# Altium footprint library MCP73871-2AAIML.PcbLib: 3 footprints
Each footprint in its own frame and in the unit in brackets; x right, y up, seen from the top. Pads: shape width x height; smd on the part's side, far side on the other; paste and mask are expansions set on the pad; w line width, h text height; cw(c..) or ccw(c..) is an arc to the next point about the centre after c.
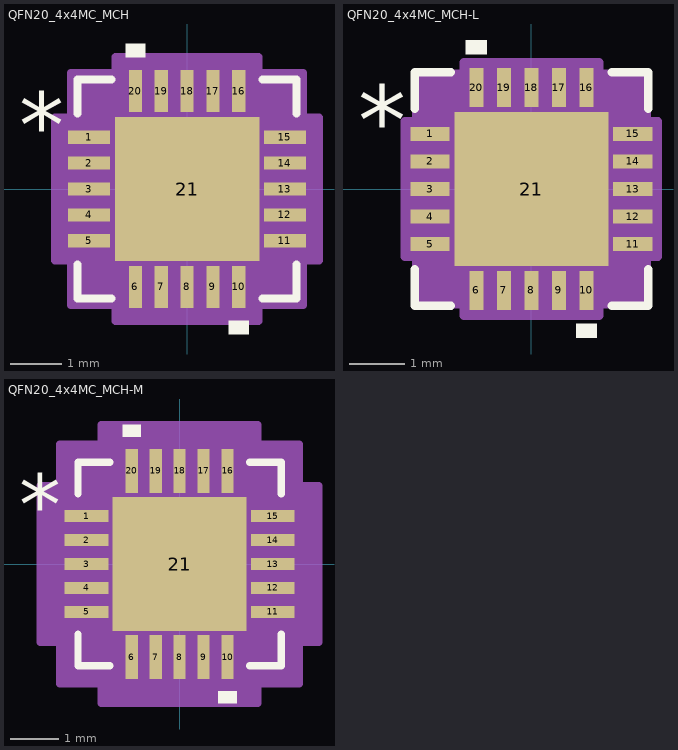
[diagram p0: the footprints below, top view; thin cyan lines are the x and y axes]

## QFN20_4x4MC_MCH [mil]
pads (21):
  rect 32x10 smd paste+0 mask+0: 1(-74.5,39.37) 2(-74.5,19.68) 3(-74.5,0) 4(-74.5,-19.68) 5(-74.5,-39.37) 11(74.5,-39.37) 12(74.5,-19.68) 13(74.5,0) 14(74.5,19.68) 15(74.5,39.37)
  rect 10x32 smd paste+0 mask+0: 6(-39.37,-74.5) 7(-19.68,-74.5) 8(0,-74.5) 9(19.68,-74.5) 10(39.37,-74.5) 16(39.37,74.5) 17(19.68,74.5) 18(0,74.5) 19(-19.68,74.5) 20(-39.37,74.5)
  rect 110x110 smd paste-55 mask+0: 21(0,0)
Top Overlay:
  region: 46.87,-100.5 31.87,-100.5 31.87,-110.5 46.87,-110.5
  region: -31.87,100.5 -46.87,100.5 -46.87,110.5 -31.87,110.5
  lines w6: -83.5,-57.47 -83.5,-83.5 -57.47,-83.5 ; -83.5,57.47 -83.5,83.5 -57.47,83.5 ; 57.47,-83.5 83.5,-83.5 83.5,-57.47 ; 57.47,83.5 83.5,83.5 83.5,57.47
  text "*" at -128,24.21 h50
  text ".Designator" at -137.5,-25 h50
Top Paste:
  region: -3.94,51.06 -51.06,51.06 -51.06,3.94 -3.94,3.94
  region: -3.94,-3.94 -51.06,-3.94 -51.06,-51.06 -3.94,-51.06
  region: 51.06,51.06 3.94,51.06 3.94,3.94 51.06,3.94
  region: 51.06,-3.94 3.94,-3.94 3.94,-51.06 51.06,-51.06
Mechanical 13:
  lines w1: -78.5,28.5 -28.5,78.5 ; -78.5,-78.5 78.5,-78.5 ; -78.5,-78.5 -78.5,78.5 ; -78.5,-78.5 -78.5,-78.5 ; -78.5,-45.37 -78.5,-33.37 ; -78.5,-45.37 -78.5,-33.37 ; -78.5,-45.37 -78.5,-45.37 ; -78.5,-33.37 -78.5,-33.37 ; -78.5,-25.68 -78.5,-13.69 ; -78.5,-25.68 -78.5,-13.69 ; -78.5,-25.68 -78.5,-25.68 ; -78.5,-13.69 -78.5,-13.69 ; -78.5,-6 -78.5,6 ; -78.5,-6 -78.5,6 ; -78.5,-6 -78.5,-6 ; -78.5,6 -78.5,6 ; -78.5,13.69 -78.5,25.68 ; -78.5,13.69 -78.5,25.68 ; -78.5,13.69 -78.5,13.69 ; -78.5,25.68 -78.5,25.68 ; -78.5,33.37 -78.5,45.37 ; -78.5,33.37 -78.5,45.37 ; -78.5,33.37 -78.5,33.37 ; -78.5,45.37 -78.5,45.37 ; -78.5,78.5 78.5,78.5 ; -78.5,78.5 -78.5,78.5 ; -45.37,-78.5 -33.37,-78.5 ; -45.37,-78.5 -45.37,-78.5 ; -45.37,-78.5 -33.37,-78.5 ; -45.37,78.5 -33.37,78.5 ; -45.37,78.5 -33.37,78.5 ; -45.37,78.5 -45.37,78.5 ; -33.37,-78.5 -33.37,-78.5 ; -33.37,78.5 -33.37,78.5 ; -25.68,-78.5 -13.69,-78.5 ; -25.68,-78.5 -25.68,-78.5 ; -25.68,-78.5 -13.69,-78.5 ; -25.68,78.5 -13.69,78.5 ; -25.68,78.5 -13.69,78.5 ; -25.68,78.5 -25.68,78.5 ; -13.69,-78.5 -13.69,-78.5 ; -13.69,78.5 -13.69,78.5 ; -6,-78.5 6,-78.5 ; -6,-78.5 -6,-78.5 ; -6,-78.5 6,-78.5 ; -6,78.5 6,78.5 ; -6,78.5 6,78.5 ; -6,78.5 -6,78.5 ; 6,-78.5 6,-78.5 ; 6,78.5 6,78.5 ; 13.69,-78.5 25.68,-78.5 ; 13.69,-78.5 13.69,-78.5 ; 13.69,-78.5 25.68,-78.5 ; 13.69,78.5 25.68,78.5 ; 13.69,78.5 25.68,78.5 ; 13.69,78.5 13.69,78.5 ; 25.68,-78.5 25.68,-78.5 ; 25.68,78.5 25.68,78.5 ; 33.37,-78.5 45.37,-78.5 ; 33.37,-78.5 33.37,-78.5 ; 33.37,-78.5 45.37,-78.5 ; 33.37,78.5 45.37,78.5 ; 33.37,78.5 45.37,78.5 ; 33.37,78.5 33.37,78.5 ; 45.37,-78.5 45.37,-78.5 ; 45.37,78.5 45.37,78.5 ; 78.5,-78.5 78.5,-78.5 ; 78.5,-78.5 78.5,78.5 ; 78.5,-45.37 78.5,-33.37 ; 78.5,-45.37 78.5,-45.37 ; 78.5,-45.37 78.5,-33.37 ; 78.5,-33.37 78.5,-33.37 ; 78.5,-25.68 78.5,-13.69 ; 78.5,-25.68 78.5,-25.68 ; 78.5,-25.68 78.5,-13.69 ; 78.5,-13.69 78.5,-13.69 ; 78.5,-6 78.5,6 ; 78.5,-6 78.5,-6 ; 78.5,-6 78.5,6 ; 78.5,6 78.5,6 ; 78.5,13.69 78.5,25.68 ; 78.5,13.69 78.5,13.69 ; 78.5,13.69 78.5,25.68 ; 78.5,25.68 78.5,25.68 ; 78.5,33.37 78.5,45.37 ; 78.5,33.37 78.5,33.37 ; 78.5,33.37 78.5,45.37 ; 78.5,45.37 78.5,45.37 ; 78.5,78.5 78.5,78.5
  text ".Designator" at -137.5,-25 h50
  text "*" at -71,24.21 h50
Mechanical 15:
  region: -54.37,-88.5 -88.5,-88.5 -88.5,-54.37 -100.5,-54.37 -100.5,54.37 -88.5,54.37 -88.5,88.5 -54.37,88.5 -54.37,100.5 54.37,100.5 54.37,88.5 88.5,88.5 88.5,54.37 100.5,54.37 100.5,-54.37 88.5,-54.37 88.5,-88.5 54.37,-88.5 54.37,-100.5 -54.37,-100.5
  lines w6: -100.5,-54.37 -88.5,-54.37 -88.5,-88.5 -54.37,-88.5 -54.37,-100.5 54.37,-100.5 54.37,-88.5 88.5,-88.5 88.5,-54.37 100.5,-54.37 100.5,54.37 88.5,54.37 88.5,88.5 54.37,88.5 54.37,100.5 -54.37,100.5 -54.37,88.5 -88.5,88.5 -88.5,54.37 -100.5,54.37 -100.5,-54.37
3D body "QFN20_4x4MC_MCH.step": height 39.09, standoff 0, extent -78.5,-78.5 78.5,78.5

## QFN20_4x4MC_MCH-L [mil]
pads (21):
  rect 28x10 smd paste+0 mask+0: 1(-72.5,39.37) 2(-72.5,19.68) 3(-72.5,0) 4(-72.5,-19.68) 5(-72.5,-39.37) 11(72.5,-39.37) 12(72.5,-19.68) 13(72.5,0) 14(72.5,19.68) 15(72.5,39.37)
  rect 10x28 smd paste+0 mask+0: 6(-39.37,-72.5) 7(-19.68,-72.5) 8(0,-72.5) 9(19.68,-72.5) 10(39.37,-72.5) 16(39.37,72.5) 17(19.68,72.5) 18(0,72.5) 19(-19.68,72.5) 20(-39.37,72.5)
  rect 110x110 smd paste-55 mask+0: 21(0,0)
Top Overlay:
  region: 46.87,-96.5 31.87,-96.5 31.87,-106.5 46.87,-106.5
  region: -31.87,96.5 -46.87,96.5 -46.87,106.5 -31.87,106.5
  lines w6: -83.5,-57.47 -83.5,-83.5 -57.47,-83.5 ; -83.5,57.47 -83.5,83.5 -57.47,83.5 ; 57.47,-83.5 83.5,-83.5 83.5,-57.47 ; 57.47,83.5 83.5,83.5 83.5,57.47
  text "*" at -124,24.21 h50
  text ".Designator" at -137.5,-25 h50
Top Paste:
  region: -3.94,51.06 -51.06,51.06 -51.06,3.94 -3.94,3.94
  region: -3.94,-3.94 -51.06,-3.94 -51.06,-51.06 -3.94,-51.06
  region: 51.06,51.06 3.94,51.06 3.94,3.94 51.06,3.94
  region: 51.06,-3.94 3.94,-3.94 3.94,-51.06 51.06,-51.06
Mechanical 13:
  lines w1: -78.5,28.5 -28.5,78.5 ; -78.5,-78.5 78.5,-78.5 ; -78.5,-78.5 -78.5,78.5 ; -78.5,-78.5 -78.5,-78.5 ; -78.5,-45.37 -78.5,-33.37 ; -78.5,-45.37 -78.5,-33.37 ; -78.5,-45.37 -78.5,-45.37 ; -78.5,-33.37 -78.5,-33.37 ; -78.5,-25.68 -78.5,-13.69 ; -78.5,-25.68 -78.5,-13.69 ; -78.5,-25.68 -78.5,-25.68 ; -78.5,-13.69 -78.5,-13.69 ; -78.5,-6 -78.5,6 ; -78.5,-6 -78.5,6 ; -78.5,-6 -78.5,-6 ; -78.5,6 -78.5,6 ; -78.5,13.69 -78.5,25.68 ; -78.5,13.69 -78.5,25.68 ; -78.5,13.69 -78.5,13.69 ; -78.5,25.68 -78.5,25.68 ; -78.5,33.37 -78.5,45.37 ; -78.5,33.37 -78.5,45.37 ; -78.5,33.37 -78.5,33.37 ; -78.5,45.37 -78.5,45.37 ; -78.5,78.5 78.5,78.5 ; -78.5,78.5 -78.5,78.5 ; -45.37,-78.5 -33.37,-78.5 ; -45.37,-78.5 -45.37,-78.5 ; -45.37,-78.5 -33.37,-78.5 ; -45.37,78.5 -33.37,78.5 ; -45.37,78.5 -33.37,78.5 ; -45.37,78.5 -45.37,78.5 ; -33.37,-78.5 -33.37,-78.5 ; -33.37,78.5 -33.37,78.5 ; -25.68,-78.5 -13.69,-78.5 ; -25.68,-78.5 -25.68,-78.5 ; -25.68,-78.5 -13.69,-78.5 ; -25.68,78.5 -13.69,78.5 ; -25.68,78.5 -13.69,78.5 ; -25.68,78.5 -25.68,78.5 ; -13.69,-78.5 -13.69,-78.5 ; -13.69,78.5 -13.69,78.5 ; -6,-78.5 6,-78.5 ; -6,-78.5 -6,-78.5 ; -6,-78.5 6,-78.5 ; -6,78.5 6,78.5 ; -6,78.5 6,78.5 ; -6,78.5 -6,78.5 ; 6,-78.5 6,-78.5 ; 6,78.5 6,78.5 ; 13.69,-78.5 25.68,-78.5 ; 13.69,-78.5 13.69,-78.5 ; 13.69,-78.5 25.68,-78.5 ; 13.69,78.5 25.68,78.5 ; 13.69,78.5 25.68,78.5 ; 13.69,78.5 13.69,78.5 ; 25.68,-78.5 25.68,-78.5 ; 25.68,78.5 25.68,78.5 ; 33.37,-78.5 45.37,-78.5 ; 33.37,-78.5 33.37,-78.5 ; 33.37,-78.5 45.37,-78.5 ; 33.37,78.5 45.37,78.5 ; 33.37,78.5 45.37,78.5 ; 33.37,78.5 33.37,78.5 ; 45.37,-78.5 45.37,-78.5 ; 45.37,78.5 45.37,78.5 ; 78.5,-78.5 78.5,-78.5 ; 78.5,-78.5 78.5,78.5 ; 78.5,-45.37 78.5,-33.37 ; 78.5,-45.37 78.5,-45.37 ; 78.5,-45.37 78.5,-33.37 ; 78.5,-33.37 78.5,-33.37 ; 78.5,-25.68 78.5,-13.69 ; 78.5,-25.68 78.5,-25.68 ; 78.5,-25.68 78.5,-13.69 ; 78.5,-13.69 78.5,-13.69 ; 78.5,-6 78.5,6 ; 78.5,-6 78.5,-6 ; 78.5,-6 78.5,6 ; 78.5,6 78.5,6 ; 78.5,13.69 78.5,25.68 ; 78.5,13.69 78.5,13.69 ; 78.5,13.69 78.5,25.68 ; 78.5,25.68 78.5,25.68 ; 78.5,33.37 78.5,45.37 ; 78.5,33.37 78.5,33.37 ; 78.5,33.37 78.5,45.37 ; 78.5,45.37 78.5,45.37 ; 78.5,78.5 78.5,78.5
  text ".Designator" at -137.5,-25 h50
  text "*" at -71,24.21 h50
Mechanical 15:
  region: -48.37,-82.5 -82.5,-82.5 -82.5,-48.37 -90.5,-48.37 -90.5,48.37 -82.5,48.37 -82.5,82.5 -48.37,82.5 -48.37,90.5 48.37,90.5 48.37,82.5 82.5,82.5 82.5,48.37 90.5,48.37 90.5,-48.37 82.5,-48.37 82.5,-82.5 48.37,-82.5 48.37,-90.5 -48.37,-90.5
  lines w6: -90.5,-48.37 -82.5,-48.37 -82.5,-82.5 -48.37,-82.5 -48.37,-90.5 48.37,-90.5 48.37,-82.5 82.5,-82.5 82.5,-48.37 90.5,-48.37 90.5,48.37 82.5,48.37 82.5,82.5 48.37,82.5 48.37,90.5 -48.37,90.5 -48.37,82.5 -82.5,82.5 -82.5,48.37 -90.5,48.37 -90.5,-48.37
3D body "QFN20_4x4MC_MCH.step": height 39.09, standoff 0, extent -78.5,-78.5 78.5,78.5

## QFN20_4x4MC_MCH-M [mil]
pads (21):
  rect 36x10 smd paste+0 mask+0: 1(-76.5,39.37) 2(-76.5,19.68) 3(-76.5,0) 4(-76.5,-19.68) 5(-76.5,-39.37) 11(76.5,-39.37) 12(76.5,-19.68) 13(76.5,0) 14(76.5,19.68) 15(76.5,39.37)
  rect 10x36 smd paste+0 mask+0: 6(-39.37,-76.5) 7(-19.68,-76.5) 8(0,-76.5) 9(19.68,-76.5) 10(39.37,-76.5) 16(39.37,76.5) 17(19.68,76.5) 18(0,76.5) 19(-19.68,76.5) 20(-39.37,76.5)
  rect 110x110 smd paste-55 mask+0: 21(0,0)
Top Overlay:
  region: 46.87,-104.5 31.87,-104.5 31.87,-114.5 46.87,-114.5
  region: -31.87,104.5 -46.87,104.5 -46.87,114.5 -31.87,114.5
  lines w6: -83.5,-57.47 -83.5,-83.5 -57.47,-83.5 ; -83.5,57.47 -83.5,83.5 -57.47,83.5 ; 57.47,-83.5 83.5,-83.5 83.5,-57.47 ; 57.47,83.5 83.5,83.5 83.5,57.47
  text "*" at -132,24.21 h50
  text ".Designator" at -137.5,-25 h50
Top Paste:
  region: -3.94,51.06 -51.06,51.06 -51.06,3.94 -3.94,3.94
  region: -3.94,-3.94 -51.06,-3.94 -51.06,-51.06 -3.94,-51.06
  region: 51.06,51.06 3.94,51.06 3.94,3.94 51.06,3.94
  region: 51.06,-3.94 3.94,-3.94 3.94,-51.06 51.06,-51.06
Mechanical 13:
  lines w1: -78.5,28.5 -28.5,78.5 ; -78.5,-78.5 78.5,-78.5 ; -78.5,-78.5 -78.5,78.5 ; -78.5,-78.5 -78.5,-78.5 ; -78.5,-45.37 -78.5,-33.37 ; -78.5,-45.37 -78.5,-33.37 ; -78.5,-45.37 -78.5,-45.37 ; -78.5,-33.37 -78.5,-33.37 ; -78.5,-25.68 -78.5,-13.69 ; -78.5,-25.68 -78.5,-13.69 ; -78.5,-25.68 -78.5,-25.68 ; -78.5,-13.69 -78.5,-13.69 ; -78.5,-6 -78.5,6 ; -78.5,-6 -78.5,6 ; -78.5,-6 -78.5,-6 ; -78.5,6 -78.5,6 ; -78.5,13.69 -78.5,25.68 ; -78.5,13.69 -78.5,25.68 ; -78.5,13.69 -78.5,13.69 ; -78.5,25.68 -78.5,25.68 ; -78.5,33.37 -78.5,45.37 ; -78.5,33.37 -78.5,45.37 ; -78.5,33.37 -78.5,33.37 ; -78.5,45.37 -78.5,45.37 ; -78.5,78.5 78.5,78.5 ; -78.5,78.5 -78.5,78.5 ; -45.37,-78.5 -33.37,-78.5 ; -45.37,-78.5 -45.37,-78.5 ; -45.37,-78.5 -33.37,-78.5 ; -45.37,78.5 -33.37,78.5 ; -45.37,78.5 -33.37,78.5 ; -45.37,78.5 -45.37,78.5 ; -33.37,-78.5 -33.37,-78.5 ; -33.37,78.5 -33.37,78.5 ; -25.68,-78.5 -13.69,-78.5 ; -25.68,-78.5 -25.68,-78.5 ; -25.68,-78.5 -13.69,-78.5 ; -25.68,78.5 -13.69,78.5 ; -25.68,78.5 -13.69,78.5 ; -25.68,78.5 -25.68,78.5 ; -13.69,-78.5 -13.69,-78.5 ; -13.69,78.5 -13.69,78.5 ; -6,-78.5 6,-78.5 ; -6,-78.5 -6,-78.5 ; -6,-78.5 6,-78.5 ; -6,78.5 6,78.5 ; -6,78.5 6,78.5 ; -6,78.5 -6,78.5 ; 6,-78.5 6,-78.5 ; 6,78.5 6,78.5 ; 13.69,-78.5 25.68,-78.5 ; 13.69,-78.5 13.69,-78.5 ; 13.69,-78.5 25.68,-78.5 ; 13.69,78.5 25.68,78.5 ; 13.69,78.5 25.68,78.5 ; 13.69,78.5 13.69,78.5 ; 25.68,-78.5 25.68,-78.5 ; 25.68,78.5 25.68,78.5 ; 33.37,-78.5 45.37,-78.5 ; 33.37,-78.5 33.37,-78.5 ; 33.37,-78.5 45.37,-78.5 ; 33.37,78.5 45.37,78.5 ; 33.37,78.5 45.37,78.5 ; 33.37,78.5 33.37,78.5 ; 45.37,-78.5 45.37,-78.5 ; 45.37,78.5 45.37,78.5 ; 78.5,-78.5 78.5,-78.5 ; 78.5,-78.5 78.5,78.5 ; 78.5,-45.37 78.5,-33.37 ; 78.5,-45.37 78.5,-45.37 ; 78.5,-45.37 78.5,-33.37 ; 78.5,-33.37 78.5,-33.37 ; 78.5,-25.68 78.5,-13.69 ; 78.5,-25.68 78.5,-25.68 ; 78.5,-25.68 78.5,-13.69 ; 78.5,-13.69 78.5,-13.69 ; 78.5,-6 78.5,6 ; 78.5,-6 78.5,-6 ; 78.5,-6 78.5,6 ; 78.5,6 78.5,6 ; 78.5,13.69 78.5,25.68 ; 78.5,13.69 78.5,13.69 ; 78.5,13.69 78.5,25.68 ; 78.5,25.68 78.5,25.68 ; 78.5,33.37 78.5,45.37 ; 78.5,33.37 78.5,33.37 ; 78.5,33.37 78.5,45.37 ; 78.5,45.37 78.5,45.37 ; 78.5,78.5 78.5,78.5
  text ".Designator" at -137.5,-25 h50
  text "*" at -71,24.21 h50
Mechanical 15:
  region: -64.37,-98.5 -98.5,-98.5 -98.5,-64.37 -114.5,-64.37 -114.5,64.37 -98.5,64.37 -98.5,98.5 -64.37,98.5 -64.37,114.5 64.37,114.5 64.37,98.5 98.5,98.5 98.5,64.37 114.5,64.37 114.5,-64.37 98.5,-64.37 98.5,-98.5 64.37,-98.5 64.37,-114.5 -64.37,-114.5
  lines w6: -114.5,-64.37 -98.5,-64.37 -98.5,-98.5 -64.37,-98.5 -64.37,-114.5 64.37,-114.5 64.37,-98.5 98.5,-98.5 98.5,-64.37 114.5,-64.37 114.5,64.37 98.5,64.37 98.5,98.5 64.37,98.5 64.37,114.5 -64.37,114.5 -64.37,98.5 -98.5,98.5 -98.5,64.37 -114.5,64.37 -114.5,-64.37
3D body "QFN20_4x4MC_MCH.step": height 39.09, standoff 0, extent -78.5,-78.5 78.5,78.5